# Altium schematic symbol library SIM7080G.SchLib: 1 symbol
Pins are listed as number, name and electrical type; pins without a type are passive.

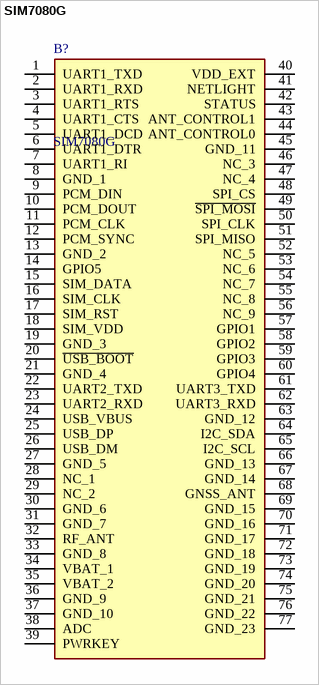
[diagram p0: symbol SIM7080G]

## SIM7080G
designator B?
SIM7080G is Multi-Band CAT-M and NB-IoT module solution in a SMT type .; Manufacturer_Name: SIMCOM; Geometry.Height: 2.6mm; Manufacturer_Part_Number: SIM7080G; Mouser Part Number: *; Mouser Price/Stock: *; Arrow Part Number: *; Arrow Price/Stock: *; Datasheet Link: https://www.waveshare.com/w/upload/e/e7/SIM7080G_Hardware_Design_V1.03.pdf
footprint SIM7080G
pins: 1 UART1_TXD, 2 UART1_RXD, 3 UART1_RTS, 4 UART1_CTS, 5 UART1_DCD, 6 UART1_DTR, 7 UART1_RI, 8 GND_1, 9 PCM_DIN, 10 PCM_DOUT, 11 PCM_CLK, 12 PCM_SYNC, 13 GND_2, 14 GPIO5, 15 SIM_DATA, 16 SIM_CLK, 17 SIM_RST, 18 SIM_VDD, 19 GND_3, 20 ~{USB_BOOT}, 21 GND_4, 22 UART2_TXD, 23 UART2_RXD, 24 USB_VBUS, 25 USB_DP, 26 USB_DM, 27 GND_5, 28 NC_1, 29 NC_2, 30 GND_6, 31 GND_7, 32 RF_ANT, 33 GND_8, 34 VBAT_1, 35 VBAT_2, 36 GND_9, 37 GND_10, 38 ADC, 39 PWRKEY, 40 VDD_EXT, 41 NETLIGHT, 42 STATUS, 43 ANT_CONTROL1, 44 ANT_CONTROL0, 45 GND_11, 46 NC_3, 47 NC_4, 48 SPI_CS, 49 ~{SPI_MOSI}, 50 SPI_CLK, 51 SPI_MISO, 52 NC_5, 53 NC_6, 54 NC_7, 55 NC_8, 56 NC_9, 57 GPIO1, 58 GPIO2, 59 GPIO3, 60 GPIO4, 61 UART3_TXD, 62 UART3_RXD, 63 GND_12, 64 I2C_SDA, 65 I2C_SCL, 66 GND_13, 67 GND_14, 68 GNSS_ANT, 69 GND_15, 70 GND_16, 71 GND_17, 72 GND_18, 73 GND_19, 74 GND_20, 75 GND_21, 76 GND_22, 77 GND_23